# EAGLE library part RN4020 (library systas0)
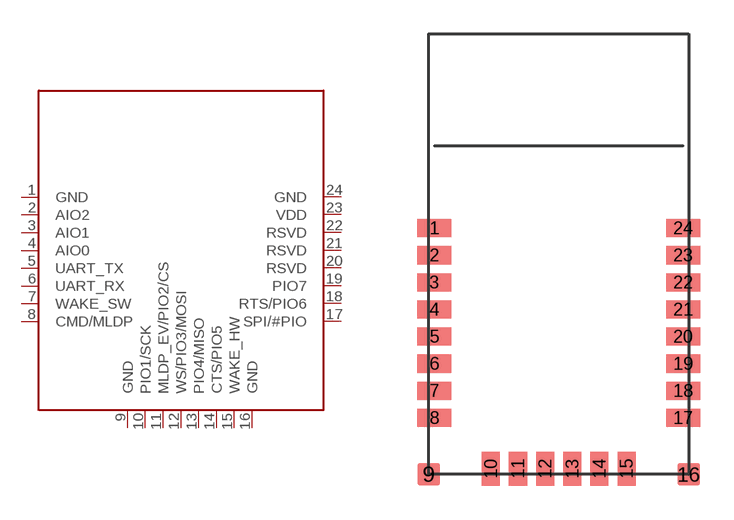
[diagram p26: symbol with the pads of RN4020; footprint RN4020]

Designator prefix -

## RN4020  [RN4020]
1  GND
2  AIO2
3  AIO1
4  AIO0
5  UART_TX
6  UART_RX
7  WAKE_SW
8  CMD/MLDP
9  GND
10  PIO1/SCK
11  MLDP_EV/PIO2/CS
12  WS/PIO3/MOSI
13  PIO4/MISO
14  CTS/PIO5
15  WAKE_HW
16  GND
17  SPI/#PIO
18  RTS/PIO6
19  PIO7
20  RSVD
21  RSVD
22  RSVD
23  VDD
24  GND

## Footprint RN4020 (pad centres in mm)
smd 1.5 x 0.8: 1 -5.5,1.15; 2 -5.5,-0.05; 3 -5.5,-1.25; 4 -5.5,-2.45; 5 -5.5,-3.65; 6 -5.5,-4.85; 7 -5.5,-6.05; 8 -5.5,-7.25; 17 5.5,-7.25; 18 5.5,-6.05; 19 5.5,-4.85; 20 5.5,-3.65; 21 5.5,-2.45; 22 5.5,-1.25; 23 5.5,-0.05; 24 5.5,1.15
smd 1 x 1: 9 -5.75,-9.75; 16 5.75,-9.75
smd 0.8 x 1.5: 10 -3,-9.5; 11 -1.8,-9.5; 12 -0.6,-9.5; 13 0.6,-9.5; 14 1.8,-9.5; 15 3,-9.5